# Altium schematic symbol library LEDs.SchLib: 9 symbols
Pins are listed as number, name and electrical type; pins without a type are passive.

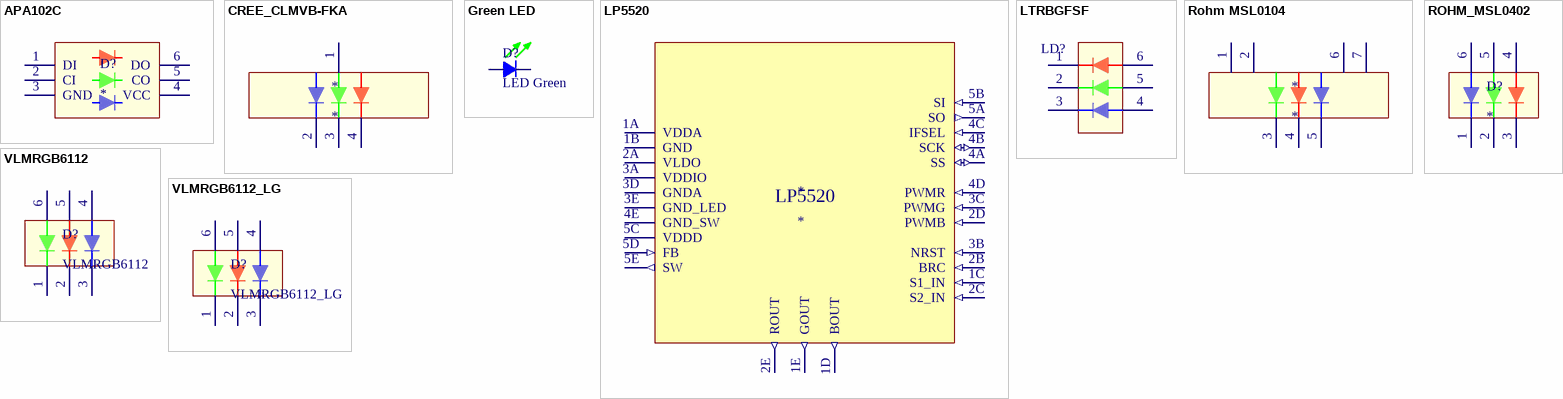
[diagram p0: symbols APA102C to VLMRGB6112_LG]

## APA102C
designator D?
footprint APA102C
pins: 1 DI, 2 CI, 3 GND, 4 VCC, 5 CO, 6 DO

## CREE_CLMVB-FKA
designator *
Supplier 1: Digi-Key; Supplier Part Number 1: CLMVB-FKA-CFHEHLCBB7A363CT-ND
footprint CREE_CLMVB-FKA (Tiny RGB LED)
pins: 1 C1, 2 A2, 3 C3, 4 A3

## Green LED
designator D?, comment LED Green
LED Green Diffused 0603; Manufacturer: Rohm; Manufacturer Part Number: SML-D12M8WT86; TZOA PN: XXX; Intensity: 100 mcd; Forward (Drive) Current: 20 mA; Forward Voltage: 2.2 V; Supplier 1: Digi-Key; Stock 1: 105158; Pricing 1: 1=0.34, 10=0.251, 25=0.1848, 100=0.132, 250=0.0898, 500=0.0792, 1000=0.062 (USD); Color: Green; Dimension: 0603; Lens Type: Diffused; ComponentLink1URL: https://datasheet.ciiva.com/11774/0900766b80df3ada-11774260.pdf; ComponentLink1Description: https://datasheet.ciiva.com/11774/0900766b80df3ada-11774260.pdf; ComponentLink2URL: https://datasheet.ciiva.com/3161/sml-d1-3161419.pdf; ComponentLink2Description: https://datasheet.ciiva.com/3161/sml-d1-3161419.pdf; ComponentLink3URL: https://datasheet.ciiva.com/2110/sml-d1-2110396.pdf; ComponentLink3Description: https://datasheet.ciiva.com/2110/sml-d1-2110396.pdf; ComponentLink4URL: https://datasheet.ciiva.com/2110/sml-d1-2110397.pdf; ComponentLink4Description: https://datasheet.ciiva.com/2110/sml-d1-2110397.pdf; ComponentLink5URL: https://datasheet.ciiva.com/2110/sml-d1-2110398.pdf; ComponentLink5Description: https://datasheet.ciiva.com/2110/sml-d1-2110398.pdf; Supplier Part Number 1: 511-1578-1-ND
footprint LED_0603
pins: 1, 2

## LP5520
designator *
Supplier 1: Digi-Key; Supplier Part Number 1: LP5520TL/NOPBCT-ND
pins: 1A VDDA (power), 1B GND (power), 1C S1_IN (in), 1D BOUT (out), 1E GOUT (out), 2A VLDO (power), 2B BRC (in), 2C S2_IN (in), 2D PWMB (in), 2E ROUT (out), 3A VDDIO (power), 3B NRST (in), 3C PWMG (in), 3D GNDA (power), 3E GND_LED (power), 4A SS (io), 4B SCK (io), 4C IFSEL (in), 4D PWMR (in), 4E GND_SW (power), 5A SO (out), 5B SI (in), 5C VDDD (power), 5D FB (in), 5E SW (out)

## LTRBGFSF
designator LD?  (value not drawn)
LED,SMD,RGB,12DEG,3.3x3.3mm; Manufacturer: OSRAM Opto Semiconductors Inc.; Manufacturer Part Number: LTRBGFSF-ABCB-QKYO-Z; Color: Red, Green, Blue (RGB); Lens Transparency: Diffused; Millicandela Rating: 700mcd Red, 1350mcd Green, 160mcd Blue; Lens Style/Size: Square with Flat Top; Voltage - Forward (Vf) (Typ): 2.05V Red, 3.2V Green, 3.2V Blue; Current - Test: 20mA Red, 20mA Green, 10mA Blue; Viewing Angle: 120°; Wavelength - Dominant: 625nm Red, 530nm Green, 460mn Blue; Wavelength - Peak: 632nm Red, 523nm Green, 465nm Blue; ID: 13651835; Supplier 1: Digi-Key; RoHS: RoHS Compliant; Category: Optoelectronics; Stock 1: 118478; Pricing 1: 1=1.06, 10=0.862, 25=0.6624, 100=0.5963, 250=0.53, 500=0.45046 (CAD); Packaging: Cut Tape (CT); Lens Color: -; Mounting Type: Surface Mount; Features: -; Package / Case: 6-SMD, J-Lead; Supplier Device Package: 6-PLCC; Size / Dimension: 3.30mm L x 3.00mm W; Height (Max): 2.00mm; ComponentLink1URL: http://www.osram-os.com/Graphics/XPic9/00134830_0.pdf; ComponentLink1Description: http://www.osram-os.com/Graphics/XPic9/00134830_0.pdf; Supplier 2: Arrow; Stock 2: 22; Pricing 2: 1=0.7982, 10=0.6233, 25=0.614, 100=0.6094 (USD); Package Quantity: 1; ComponentLink2URL: https://www.arrow.com/en/products/ltrbgfsf-abcb-qkyo-z/osram-opto-semiconductors/; ComponentLink2Description: https://www.arrow.com/en/products/ltrbgfsf-abcb-qkyo-z/osram-opto-semiconductors/; Supplier Part Number 1: 475-2899-1-ND; Supplier Part Number 2: Y-ldbDXYjg9B1UvL7hgjXNjcnePNfn6BXUM90nLMmJqiWyug2CF2k03q_JzjkvVk
footprint LTRB_GFSF (OSRAM RGB LED)
pins: 1 C1, 2 C2, 3 C3, 4 A3, 5 A2, 6 A1

## Rohm MSL0104
designator *
pins: 1 C1, 2 C2, 3 C3, 4 A3, 5 A2, 6 A1, 7 A1

## ROHM_MSL0402
designator D?
pins: 1 A2, 2 C3, 3 A3, 4 C1, 5 C1, 6 C1

## VLMRGB6112
designator D?
LED RGB Clear 624nm/526nm/469nm 2V/3.1V/3V PLCC-6; Manufacturer: Vishay Semiconductor Opto Division; Manufacturer Part Number: VLMRGB6112-00-GS08; TZOA PN: 250-00002; Supplier 1: Digi-Key; Supplier Part Number 1: VLMRGB6112-00-GS08CT-ND
footprint VLMRGB6112
pins: 1 A2, 2 C3, 3 A3, 4 C1, 5 C1, 6 C1

## VLMRGB6112_LG
designator D?
LED RGB Clear 624nm/526nm/469nm 2V/3.1V/3V PLCC-6 (with light guide footprint); Manufacturer: Vishay Semiconductor Opto Division; Manufacturer Part Number: VLMRGB6112-00-GS08; TZOA PN: 250-00002; Supplier 1: Digi-Key; Supplier Part Number 1: VLMRGB6112-00-GS08CT-ND
footprint VLMRGB6112_LG
pins: 1 A2, 2 C3, 3 A3, 4 C1, 5 C1, 6 C1